# EAGLE library part ATMEGA328 (library talons-microcontrollers)
ATMEL ATmega328 Manufacturer <http://www.atmel.com/devices/ATMEGA328P.aspx> Octopart <https://octopart.com/search?q=atmega328P-AUR> Farnell.de <http://de.farnell.com/atmel/atmega328p-aur/mcu-8bit-atmega-20mhz-tqfp-32/dp/2425124?CMP=i-bf9f-000010000>
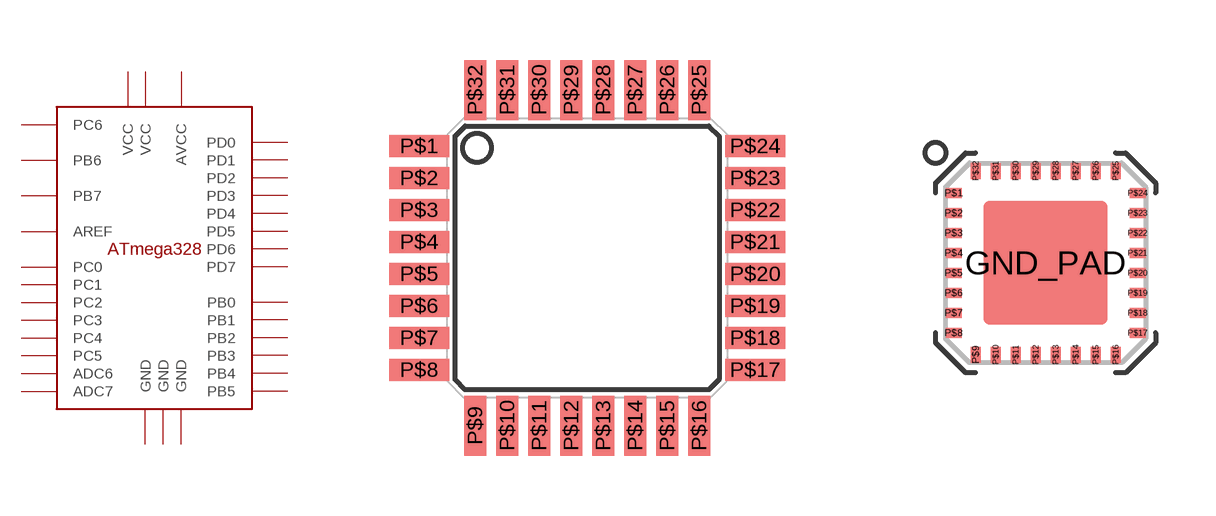
[diagram p3: symbol with the pads of ATMEL-32A; footprints ATMEL-32A, ATMEL-32M1-A]

Designator prefix -

## ATMEGA32832A  [ATMEL-32A]
P$1  PD3
P$2  PD4
P$3  GND  pwr
P$4  VCC  pwr
P$5  GND  pwr
P$6  VCC  pwr
P$7  PB6
P$8  PB7
P$9  PD5
P$10  PD6
P$11  PD7
P$12  PB0
P$13  PB1
P$14  PB2
P$15  PB3
P$16  PB4
P$17  PB5
P$18  AVCC  pwr
P$19  ADC6
P$20  AREF
P$21  GND  pwr
P$22  ADC7
P$23  PC0
P$24  PC1
P$25  PC2
P$26  PC3
P$27  PC4
P$28  PC5
P$29  PC6
P$30  PD0
P$31  PD1
P$32  PD2

## ATMEGA32832M1-A  [ATMEL-32M1-A]
GND_PAD  GND  pwr
P$1  PD3
P$2  PD4
P$3  GND  pwr
P$4  VCC  pwr
P$5  GND  pwr
P$6  VCC  pwr
P$7  PB6
P$8  PB7
P$9  PD5
P$10  PD6
P$11  PD7
P$12  PB0
P$13  PB1
P$14  PB2
P$15  PB3
P$16  PB4
P$17  PB5
P$18  AVCC  pwr
P$19  ADC6
P$20  AREF
P$21  GND  pwr
P$22  ADC7
P$23  PC0
P$24  PC1
P$25  PC2
P$26  PC3
P$27  PC4
P$28  PC5
P$29  PC6
P$30  PD0
P$31  PD1
P$32  PD2

## Footprint ATMEL-32A (pad centres in mm)
See Atmel PCB Mounting Guidelines for Surface Mount Packages <http://www.atmel.com/images/atmel-8826-seeprom-pcb-mounting-guidelines-surface-mount-packages-applicationnote.pdf> for reference.
smd 1.5 x 0.55: P$1 -4.2,2.8; P$2 -4.2,2; P$3 -4.2,1.2; P$4 -4.2,0.4; P$5 -4.2,-0.4; P$6 -4.2,-1.2; P$7 -4.2,-2; P$8 -4.2,-2.8; P$17 4.2,-2.8; P$18 4.2,-2; P$19 4.2,-1.2; P$20 4.2,-0.4; P$21 4.2,0.4; P$22 4.2,1.2; P$23 4.2,2; P$24 4.2,2.8
smd 0.55 x 1.5: P$9 -2.8,-4.2; P$10 -2,-4.2; P$11 -1.2,-4.2; P$12 -0.4,-4.2; P$13 0.4,-4.2; P$14 1.2,-4.2; P$15 2,-4.2; P$16 2.8,-4.2; P$25 2.8,4.2; P$26 2,4.2; P$27 1.2,4.2; P$28 0.4,4.2; P$29 -0.4,4.2; P$30 -1.2,4.2; P$31 -2,4.2; P$32 -2.8,4.2

## Footprint ATMEL-32M1-A (pad centres in mm)
See Atmel PCB Mounting Guidelines for Surface Mount Packages <http://www.atmel.com/images/atmel-8826-seeprom-pcb-mounting-guidelines-surface-mount-packages-applicationnote.pdf> for reference.
smd 3.1 x 3.1: GND_PAD 0,0
smd 0.4 x 0.25: P$1 -2.3,1.75; P$2 -2.3,1.25; P$3 -2.3,0.75; P$4 -2.3,0.25; P$5 -2.3,-0.25; P$6 -2.3,-0.75; P$7 -2.3,-1.25; P$8 -2.3,-1.75; P$17 2.3,-1.75; P$18 2.3,-1.25; P$19 2.3,-0.75; P$20 2.3,-0.25; P$21 2.3,0.25; P$22 2.3,0.75; P$23 2.3,1.25; P$24 2.3,1.75
smd 0.25 x 0.4: P$9 -1.75,-2.3; P$10 -1.25,-2.3; P$11 -0.75,-2.3; P$12 -0.25,-2.3; P$13 0.25,-2.3; P$14 0.75,-2.3; P$15 1.25,-2.3; P$16 1.75,-2.3; P$25 1.75,2.3; P$26 1.25,2.3; P$27 0.75,2.3; P$28 0.25,2.3; P$29 -0.25,2.3; P$30 -0.75,2.3; P$31 -1.25,2.3; P$32 -1.75,2.3